# EAGLE library part MAX11606EUA+ (library 4-bit-adc)
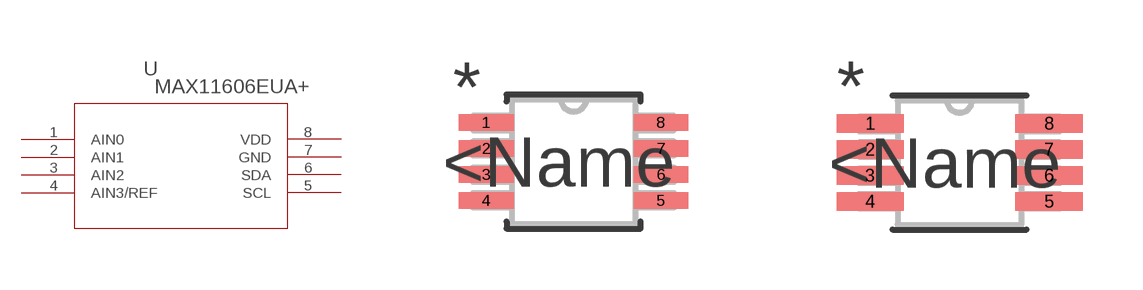
[diagram p0: symbol with the pads of 21-0036K; footprints 21-0036K, 21-0036K-M]

Designator prefix -

## MAX11606EUA+ (COPYRIGHT: Copyright C 2015 Accelerated Designs. All rights reserved; DATAINTERFACE: I²C Serial; DATASHEET: httpdatasheets.maximic.comendsMAX11606MAX11611.pdf; DESCRIPTION: IC ADC I2CSRL 10BIT 4CH 8UMAX; DIGIKEYPARTNUMBER: MAX11606EUA+ND; MANUFACTURER_PART_NUMBER: MAX11606EUA+; MOUNTINGTYPE: Surface Mount; NUMBEROFBITS: 10; NUMBEROFCONVERTERS: 1; NUMBEROFINPUTSANDTYPE: 4 SingleEnded Unipolar 4 SingleEnded Bipolar 2 Differential Unipolar 2 Differential Bipolar; OPERATINGTEMPERATURE: 40°C ~ 85°C; PACKAGECASE: 8TSSOP 8MSOP 0.118" 3.00mm Width; PACKAGING: Tube; POWERDISSIPATIONMAX: 470.6mW; QUANTITY_AVAILABLE: 742; SAMPLINGRATEPERSECOND: 94.4k; SUPPLIERDEVICEPACKAGE: 8uMAX; VENDOR: Maxim Integrated Products; VOLTAGESUPPLYSOURCE: Single Supply)  [21-0036K]
1  AIN0  in
2  AIN1  in
3  AIN2  in
4  AIN3/REF
5  SCL  in
6  SDA
7  GND  pwr
8  VDD  pwr

## MAX11606EUA+21-0036K-M (COPYRIGHT: Copyright C 2015 Accelerated Designs. All rights reserved; DATAINTERFACE: I²C Serial; DATASHEET: httpdatasheets.maximic.comendsMAX11606MAX11611.pdf; DESCRIPTION: IC ADC I2CSRL 10BIT 4CH 8UMAX; DIGIKEYPARTNUMBER: MAX11606EUA+ND; MANUFACTURER_PART_NUMBER: MAX11606EUA+; MOUNTINGTYPE: Surface Mount; NUMBEROFBITS: 10; NUMBEROFCONVERTERS: 1; NUMBEROFINPUTSANDTYPE: 4 SingleEnded Unipolar 4 SingleEnded Bipolar 2 Differential Unipolar 2 Differential Bipolar; OPERATINGTEMPERATURE: 40°C ~ 85°C; PACKAGECASE: 8TSSOP 8MSOP 0.118" 3.00mm Width; PACKAGING: Tube; POWERDISSIPATIONMAX: 470.6mW; QUANTITY_AVAILABLE: 742; SAMPLINGRATEPERSECOND: 94.4k; SUPPLIERDEVICEPACKAGE: 8uMAX; VENDOR: Maxim Integrated Products; VOLTAGESUPPLYSOURCE: Single Supply)  [21-0036K-M]
Pads as for 21-0036K

## MAX11606EUA+21-0036K-L (COPYRIGHT: Copyright C 2015 Accelerated Designs. All rights reserved; DATAINTERFACE: I²C Serial; DATASHEET: httpdatasheets.maximic.comendsMAX11606MAX11611.pdf; DESCRIPTION: IC ADC I2CSRL 10BIT 4CH 8UMAX; DIGIKEYPARTNUMBER: MAX11606EUA+ND; MANUFACTURER_PART_NUMBER: MAX11606EUA+; MOUNTINGTYPE: Surface Mount; NUMBEROFBITS: 10; NUMBEROFCONVERTERS: 1; NUMBEROFINPUTSANDTYPE: 4 SingleEnded Unipolar 4 SingleEnded Bipolar 2 Differential Unipolar 2 Differential Bipolar; OPERATINGTEMPERATURE: 40°C ~ 85°C; PACKAGECASE: 8TSSOP 8MSOP 0.118" 3.00mm Width; PACKAGING: Tube; POWERDISSIPATIONMAX: 470.6mW; QUANTITY_AVAILABLE: 742; SAMPLINGRATEPERSECOND: 94.4k; SUPPLIERDEVICEPACKAGE: 8uMAX; VENDOR: Maxim Integrated Products; VOLTAGESUPPLYSOURCE: Single Supply)  [21-0036K-L]
Pads as for 21-0036K

## Footprint 21-0036K (pad centres in mm)
smd 1.372 x 0.406: 1 -2.184,0.975; 2 -2.184,0.325; 3 -2.184,-0.325; 4 -2.184,-0.975; 5 2.184,-0.975; 6 2.184,-0.325; 7 2.184,0.325; 8 2.184,0.975

## Footprint 21-0036K-M (pad centres in mm)
smd 1.676 x 0.457: 1 -2.235,0.975; 2 -2.235,0.325; 3 -2.235,-0.325; 4 -2.235,-0.975; 5 2.235,-0.975; 6 2.235,-0.325; 7 2.235,0.325; 8 2.235,0.975

## Footprint 21-0036K-L (pad centres in mm)
smd 1.067 x 0.356: 1 -2.134,0.975; 2 -2.134,0.325; 3 -2.134,-0.325; 4 -2.134,-0.975; 5 2.134,-0.975; 6 2.134,-0.325; 7 2.134,0.325; 8 2.134,0.975